# Altium footprint library test_point_smd_0603.PCBLIB: 1 footprints
Each footprint in its own frame and in the unit in brackets; x right, y up, seen from the top. Pads: shape width x height; smd on the part's side, far side on the other; paste and mask are expansions set on the pad; w line width, h text height; cw(c..) or ccw(c..) is an arc to the next point about the centre after c.
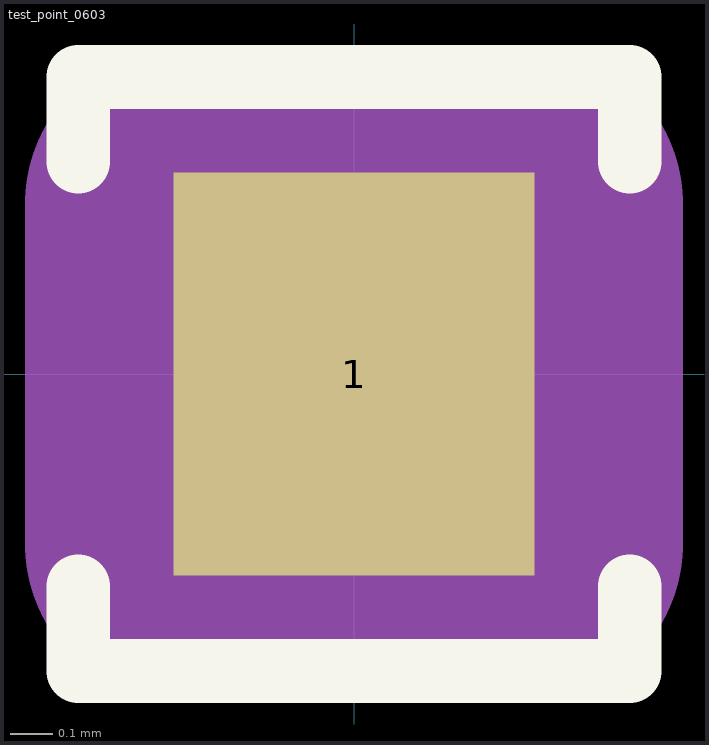
[diagram p0: the footprint, top view; thin cyan lines are the x and y axes]

## test_point_0603 [mm]
pads (1):
  rect 0.85x0.95 smd paste-2539.97: 1(0,0)
Top Overlay:
  lines w0.15: -0.65,-0.5 -0.65,-0.7 0.65,-0.7 0.65,-0.5 ; -0.65,0.5 -0.65,0.7 0.65,0.7 0.65,0.5
Top Assembly:
  lines w0.2: -0.6,-0.6 0.6,-0.6 0.6,0.6 -0.6,0.6 -0.6,-0.6
Top Courtyard:
  lines w0.05: -0.6,-0.75 0.65,-0.75 0.65,0.75 -0.6,0.75 -0.6,-0.75
Top Testpoints:
  lines w0.75: -0.4,-0.4 -0.4,0.4 0.4,0.4 0.4,-0.4 -0.4,-0.4
  text ".Designator" at -1.224,-3.009 h1.75
  text ".TP_Function" at 2.038,-3.417 h1.75